# Altium schematic symbol library SRF1280-680M.SchLib: 1 symbol
Pins are listed as number, name and electrical type; pins without a type are passive.

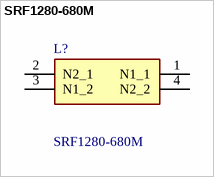
[diagram p0: symbol SRF1280-680M]

## SRF1280-680M
designator L?
SRF1280 Series - Dual-Winding Shielded Power Inductors; Manufacturer_Name: Bourns; Geometry.Height: 8mm; Manufacturer_Part_Number: SRF1280-680M; Mouser Part Number: 652-SRF1280-680M; Mouser Price/Stock: https://www.mouser.co.uk/ProductDetail/Bourns/SRF1280-680M?qs=Q2Pzc27CV9vH3OhKUPbroQ%3D%3D; Arrow Part Number: SRF1280-680M; Arrow Price/Stock: https://www.arrow.com/en/products/srf1280-680m/bourns; Datasheet Link: https://componentsearchengine.com/Datasheets/2/SRF1280-680M.pdf
footprint SRF1280680M
pins: 1 N1_1, 2 N2_1, 3 N1_2, 4 N2_2